# EAGLE library part DEC8235 (library dec-con)
4-bit data selector
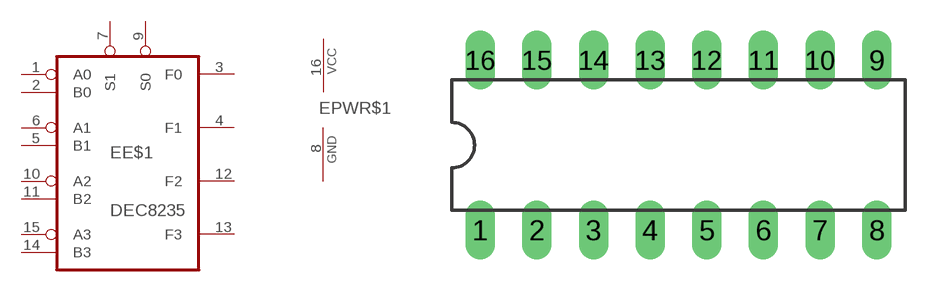
[diagram p31: symbol with the pads of DIL16; footprint DIL16]

Designator prefix E; gates E$1=8235 PWR$1=PWRN

## DEC8235  [DIL16]
1  E$1:A0  in
2  E$1:B0  in
3  E$1:F0  oc
4  E$1:F1  oc
5  E$1:B1  in
6  E$1:A1  in
7  E$1:S1  in
8  PWR$1:GND  pwr
9  E$1:S0  in
10  E$1:A2  in
11  E$1:B2  in
12  E$1:F2  oc
13  E$1:F3  oc
14  E$1:B3  in
15  E$1:A3  in
16  PWR$1:VCC  pwr

## Footprint DIL16 (pad centres in mm)
Dual In Line Package
drill 0.813 long: 1 -8.89,-3.81; 2 -6.35,-3.81; 3 -3.81,-3.81; 4 -1.27,-3.81; 5 1.27,-3.81; 6 3.81,-3.81; 7 6.35,-3.81; 8 8.89,-3.81; 9 8.89,3.81; 10 6.35,3.81; 11 3.81,3.81; 12 1.27,3.81; 13 -1.27,3.81; 14 -3.81,3.81; 15 -6.35,3.81; 16 -8.89,3.81